# Altium footprint library LED3216.PcbLib: 19 footprints (part 1 of 2)
Each footprint in its own frame and in the unit in brackets; x right, y up, seen from the top. Pads: shape width x height; smd on the part's side, far side on the other; paste and mask are expansions set on the pad; w line width, h text height; cw(c..) or ccw(c..) is an arc to the next point about the centre after c.
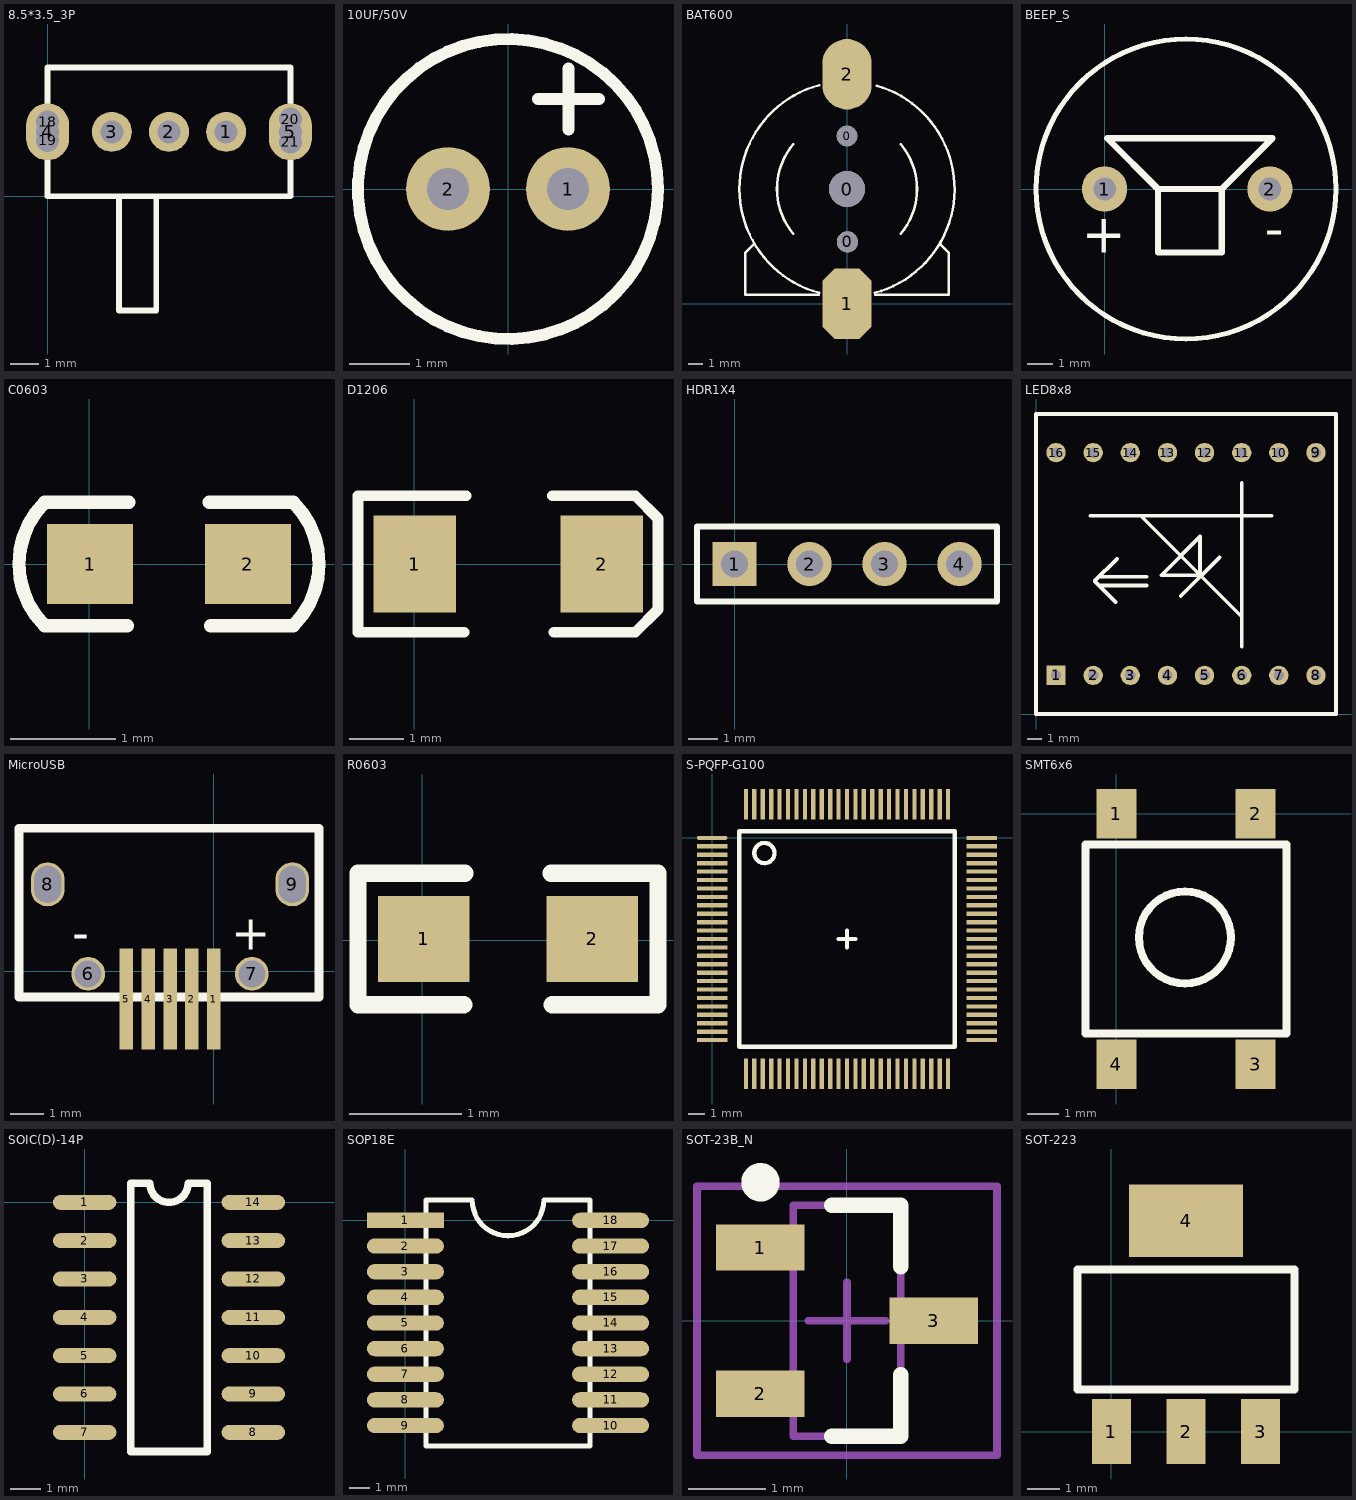
[diagram p0: the footprints below, top view; thin cyan lines are the x and y axes]

## 8.5*3.5_3P [mm]
height 4.1
pads (9):
  round 1.4 hole 0.8: 1(6.25,2.25) 2(4.25,2.25) 3(2.25,2.25)
  oval 1.5x2 hole 0.8: 4(0,2.25) 5(8.5,2.25)
  round 0.8 hole 0.8: 18(0,2.6) 19(0,1.95) 20(8.5,2.7) 21(8.5,1.9)
Top Overlay:
  lines w0.2: 2.5,0 2.5,-4 3.8,-4 3.8,0 ; 0,0 8.5,0 8.5,4.5 0,4.5 0,0

## 10UF/50V [mm]
pads (2):
  round 1.4 hole 0.7: 1(1,0) 2(-1,0)
Top Overlay:
  circle w0.2: c0,0 r2.5
  lines w0.2: 0.5,1.5 1.516,1.5 ; 1.008,0.992 1.008,2.008

## BAT600 [mm]
pads (5):
  round 2.54 hole 2.54: 0(-0.01,8.13)
  round 1.1 hole 1.5: 0(-0.01,11.88)
  round 1.5 hole 1.5: 0(0.015,4.38)
  oct 3.5x5 smd: 1(-0.01,0.002)
  oval 3.5x5 smd: 2(-0.01,16.258)
Top Overlay:
  lines w0.178: -6.61,4.23 -7.21,3.63 -7.21,0.63 -2.01,0.63 ; -3.824,4.96 cw(c-0.01,8.13) -3.822,11.302 ; -1.973,0.767 cw(c-0.01,8.13) -7.63,8.13 cw(c-0.01,8.13) -1.973,15.492 ; 1.954,0.767 ccw(c-0.01,8.13) 2.084,15.456 ; 1.99,0.63 7.19,0.63 7.19,3.63 6.615,4.205 ; 3.8,4.955 ccw(c-0.01,8.13) 3.803,11.302

## BEEP_S [mil]
pads (2):
  round 70 hole 35: 1(0,0) 2(255.91,0)
Top Overlay:
  circle w8: c125.98,0 r232.28
  lines w9.84: 82.68,0 181.1,0 ; 82.68,0 3.94,78.74 259.84,78.74 181.1,0 ; 82.68,0 82.68,-98.42 181.1,-98.42 181.1,0
  text "-" at 248.03,-90.55 h60
  text "+" at -35.43,-98.42 h60

## C0603 [mil]
pads (2):
  rect 32x30 smd: 1(0.38,0.12) 2(59.38,0.12)
Top Overlay:
  lines w5: 14.38,-22.88 -16.62,-22.88 cw(c6.38,0.12) -16.62,23.12 14.78,23.12 ; 44.98,23.12 76.38,23.12 cw(c53.38,0.12) 76.38,-22.88 45.38,-22.88

## D1206 [mm]
pads (2):
  rect 1.524x1.8 smd: 1(0.012,0.002) 2(3.462,0.002)
Top Overlay:
  lines w0.2: 0.922,-1.258 -1.038,-1.258 -1.038,1.262 0.962,1.262 ; 2.552,1.262 4.082,1.262 4.502,0.842 4.502,-0.838 4.082,-1.258 2.582,-1.258

## HDR1X4 [mm] "Connector; Header; 4 Position"
height 4.1
pads (4):
  rect 1.5x1.5 hole 0.9: 1(0,0)
  round 1.5 hole 0.9: 2(2.54,0) 3(5.08,0) 4(7.62,0)
Top Overlay:
  lines w0.2: -1.27,-1.27 -1.27,1.27 8.89,1.27 8.89,-1.27 -1.27,-1.27

## LED8x8 [mm]
height 4.1
pads (16):
  rect 1.3x1.3 hole 0.7: 1(1.35,2.6)
  round 1.3 hole 0.7: 2(3.85,2.6) 3(6.35,2.6) 4(8.85,2.6) 5(11.35,2.6) 6(13.85,2.6) 7(16.35,2.6) 8(18.85,2.6) 9(18.85,17.6) 10(16.35,17.6) 11(13.85,17.6) 12(11.35,17.6) 13(8.85,17.6) 14(6.35,17.6) 15(3.85,17.6) 16(1.35,17.6)
Top Overlay:
  lines w0.254: 3.649,13.347 15.849,13.347 ; 4.249,8.647 7.449,8.647 ; 4.249,9.247 7.449,9.247 ; 5.349,7.547 3.949,8.947 5.449,10.447 ; 7.049,13.347 13.849,6.547 ; 9.749,7.947 12.349,10.547 ; 13.849,4.547 13.849,15.547 ; 0,0 0,20.2 20.2,20.2 20.2,0 0,0 ; 8.449,9.347 11.049,11.947 11.049,9.347 8.449,9.347

## MicroUSB [mm]
height 4.1
pads (9):
  rect 0.4x3 smd: 1(0,-0.825) 2(-0.65,-0.825) 3(-1.3,-0.825) 4(-1.95,-0.825) 5(-2.6,-0.825)
  round 1 hole 0.8: 6(-3.725,-0.075) 7(1.125,-0.075)
  oval 1x1.3 hole 0.8 slot 1.1 at 90 deg: 8(-4.925,2.575) 9(2.325,2.575)
Top Overlay:
  lines w0.254: -5.775,-0.762 3.115,-0.762 3.115,4.238 -5.775,4.238 -5.775,-0.762
  text "+" at 0.508,0.635 h1.02
  text "-" at -4.191,0.635 h1.02

## R0603 [mil]
height 161.42
pads (2):
  rect 32x30 smd: 1(0.43,0.38) 2(59.43,0.38)
Top Overlay:
  lines w6: 14.43,-22.62 -22.57,-22.62 -22.57,23.38 14.84,23.38 ; 45.03,23.38 82.43,23.38 82.43,-22.62 45.43,-22.62

## S-PQFP-G100 [mm]
height 4.1
pads (100):
  oval 1.8x0.25 smd: 1(0,0)
  rect 1.8x0.25 smd: 2(0,-0.5) 3(0,-1) 4(0,-1.5) 5(0,-2) 6(0,-2.5) 7(0,-3) 8(0,-3.5) 9(0,-4) 10(0,-4.5) 11(0,-5) 12(0,-5.5) 13(0,-6) 14(0,-6.5) 15(0,-7) 16(0,-7.5) 17(0,-8) 18(0,-8.5) 19(0,-9) 20(0,-9.5) 21(0,-10) 22(0,-10.5) 23(0,-11) 24(0,-11.5) 25(0,-12) 51(16,-12) 52(16,-11.5) 53(16,-11) 54(16,-10.5) 55(16,-10) 56(16,-9.5) 57(16,-9) 58(16,-8.5) 59(16,-8) 60(16,-7.5) 61(16,-7) 62(16,-6.5) 63(16,-6) 64(16,-5.5) 65(16,-5) 66(16,-4.5) 67(16,-4) 68(16,-3.5) 69(16,-3) 70(16,-2.5) 71(16,-2) 72(16,-1.5) 73(16,-1) 74(16,-0.5) 75(16,0)
  rect 0.25x1.8 smd: 26(2,-14) 27(2.5,-14) 28(3,-14) 29(3.5,-14) 30(4,-14) 31(4.5,-14) 32(5,-14) 33(5.5,-14) 34(6,-14) 35(6.5,-14) 36(7,-14) 37(7.5,-14) 38(8,-14) 39(8.5,-14) 40(9,-14) 41(9.5,-14) 42(10,-14) 43(10.5,-14) 44(11,-14) 45(11.5,-14) 46(12,-14) 47(12.5,-14) 48(13,-14) 49(13.5,-14) 50(14,-14) 76(14,2) 77(13.5,2) 78(13,2) 79(12.5,2) 80(12,2) 81(11.5,2) 82(11,2) 83(10.5,2) 84(10,2) 85(9.5,2) 86(9,2) 87(8.5,2) 88(8,2) 89(7.5,2) 90(7,2) 91(6.5,2) 92(6,2) 93(5.5,2) 94(5,2) 95(4.5,2) 96(4,2) 97(3.5,2) 98(3,2) 99(2.5,2) 100(2,2)
Top Overlay:
  circle w0.254: c3.1,-0.9 r0.6
  lines w0.254: 7.5,-6 8.5,-6 ; 8,-6.5 8,-5.5 ; 1.6,-12.4 14.4,-12.4 14.4,0.4 1.6,0.4 1.6,-12.4

## SMT6x6 [mm]
pads (4):
  rect 1.3x1.6 smd: 1(0,0) 2(4.5,0) 3(4.5,-8.1) 4(0,-8.1)
Top Overlay:
  circle w0.254: c2.213,-4 r1.487
  lines w0.254: -1,-7.1 5.5,-7.1 5.5,-1 -1,-1 -1,-7.1

## SOIC(D)-14P [mm]
height 4.1
pads (14):
  oval 2.1x0.5 smd: 1(0,0) 2(0,-1.27) 3(0,-2.54) 4(0,-3.81) 5(0,-5.08) 6(0,-6.35) 7(0,-7.62) 8(5.588,-7.62) 9(5.588,-6.35) 10(5.588,-5.08) 11(5.588,-3.81) 12(5.588,-2.54) 13(5.588,-1.27) 14(5.588,0)
Top Overlay:
  lines w0.254: 1.524,-8.255 4.064,-8.255 4.064,0.635 3.429,0.635 cw(c2.794,0.635) 2.159,0.635 1.524,0.635 1.524,-8.255

## SOP18E [mil]
height 161.42
pads (18):
  rect 150x30 smd: 1(0,0)
  oval 150x30 smd: 2(0,-50) 3(0,-100) 4(0,-150) 5(0,-200) 6(0,-250) 7(0,-300) 8(0,-350) 9(0,-400) 10(400,-400) 11(400,-350) 12(400,-300) 13(400,-250) 14(400,-200) 15(400,-150) 16(400,-100) 17(400,-50) 18(400,0)
Top Overlay:
  lines w10: 40,-440 360,-440 360,40 270,40 cw(c200,40) 130,40 40,40 40,-440

## SOT-23B_N [mm] "SOT23, 3-Leads, Body 2.9x1.3mm, Pitch 0.95mm, Lea"
height 1.14
pads (3):
  rect 1.15x0.6 smd: 1(-1.125,0.95) 2(-1.125,-0.95) 3(1.125,0)
Top Overlay:
  circle w0.25: c-1.125,1.8 r0.125
  lines w0.2: -0.2,-1.5 0.7,-1.5 0.7,-0.7 ; -0.2,1.5 0.7,1.5 0.7,0.7
Mechanical 13:
  lines w0.1: -0.7,-1.5 -0.7,1.5 0.7,1.5 0.7,-1.5 -0.7,-1.5
Mechanical 15:
  lines w0.1: -0.5,0 0.5,0 ; 0,-0.5 0,0.5 ; -1.95,-1.75 -1.95,1.75 1.95,1.75 1.95,-1.75 -1.95,-1.75
3D body: height 1.14, standoff 0, extent -0.7,-1.5 0.7,1.5

## SOT-223 [mm]
pads (4):
  rect 1.2x2 smd: 1(0,0) 2(2.3,0) 3(4.6,0)
  rect 3.5x2.25 smd: 4(2.3,6.5)
Top Overlay:
  lines w0.25: -1.05,1.3 -1.05,5 5.65,5 5.65,1.3 -1.05,1.3